# Altium footprint library PCB1.PcbLib: 27 footprints (part 1 of 2)
Each footprint in its own frame and in the unit in brackets; x right, y up, seen from the top. Pads: shape width x height; smd on the part's side, far side on the other; paste and mask are expansions set on the pad; w line width, h text height; cw(c..) or ccw(c..) is an arc to the next point about the centre after c.
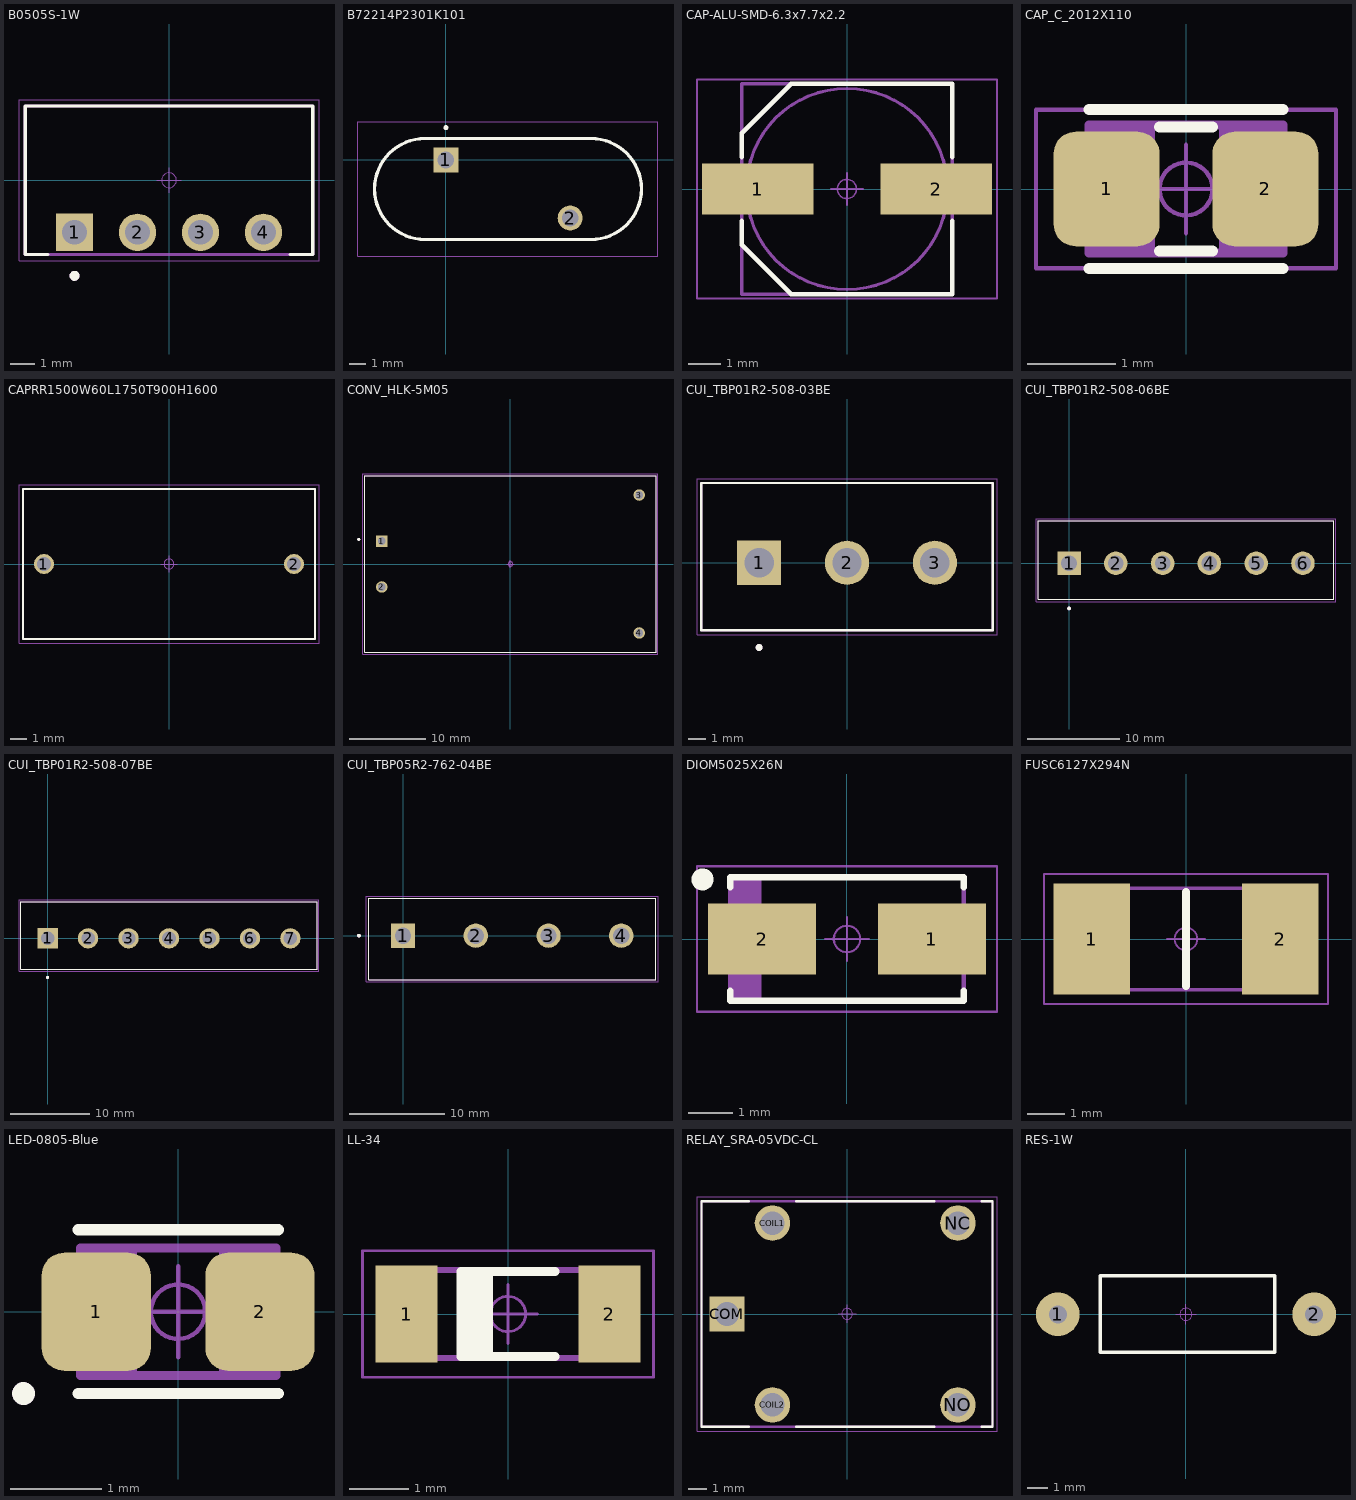
[diagram p0: the footprints below, top view; thin cyan lines are the x and y axes]

## B0505S-1W [mm]
pads (4):
  rect 1.508x1.508 / inner round 1.508 / far side rect 1.508x1.508 hole 1: 1(-3.81,-2.1)
  round 1.508 hole 1: 2(-1.27,-2.1) 3(1.27,-2.1) 4(3.81,-2.1)
Top Overlay:
  circle w0.2: c-3.81,-3.854 r0.1
  lines w0.127: -4.884,-3 -5.8,-3 -5.8,3 5.8,3 5.8,-3 4.884,-3
Top Assembly:
  lines w0.127: -5.8,-3 5.8,-3 5.8,3 -5.8,3 -5.8,-3
  text "'.Designator'" at -5.2,-1.3 h1.52
Top Courtyard:
  lines w0.05: -6.05,-3.25 -6.05,3.25 6.05,3.25 6.05,-3.25 -6.05,-3.25
Top Component Center:
  circle w0.05: c0,0 r0.3
  lines w0.05: -0.5,0 0.5,0 ; 0,-0.5 0,0.5
Mechanical 13:
  circle w0.2: c-3.81,-3.854 r0.1
3D body "B_S-1WR3.stp": height 10.16, standoff -4.1, extent -5.8,-3.013 5.8,2.987

## B72214P2301K101 [mm]
pads (2):
  rect 1.5x1.5 hole 1: 1(0,0)
  round 1.5 hole 1: 2(7.5,-3.5)
Top Overlay:
  lines w0.2: 0,1.9 ccw(c0,1.95) 0,2 ; 0,1.9 cw(c0,1.95) 0,2 ; 0,1.9 ccw(c0,1.95) 0,2 ; -1.25,-4.8 cw(c-1.25,-1.75) -1.25,1.3 8.75,1.3 cw(c8.75,-1.75) 8.75,-4.8 -1.25,-4.8
Top Assembly:
  lines w0.1: -1.25,-4.8 cw(c-1.25,-1.75) -1.25,1.3 8.75,1.3 cw(c8.75,-1.75) 8.75,-4.8 -1.25,-4.8
  text "'.Designator'" at -1.1,-3.2 h1.52
Top Courtyard:
  lines w0.05: -5.3,-5.8 12.8,-5.8 12.8,2.3 -5.3,2.3 -5.3,-5.8
3D body "B72214P2301K101.stp": height 17.97, standoff -24.03, extent -2.996,-4.772 10.496,1.112

## CAP-ALU-SMD-6.3x7.7x2.2 [mm]
pads (2):
  rect 3.5x1.6 smd: 1(-2.8,0) 2(2.8,0)
Top Overlay:
  lines w0.15: -3.3,-1 -3.3,-1.75 -1.75,-3.3 3.3,-3.3 3.3,-1 ; -3.3,1 -3.3,1.75 -1.75,3.3 3.3,3.3 3.3,1
Top Assembly:
  circle w0.1: c0,0 r3.15
  lines w0.1: -3.3,-3.3 3.3,-3.3 3.3,3.3 -3.3,3.3 -3.3,-3.3
  text "'.Designator'" at -8,-1 h1.52
Top Courtyard:
  lines w0.05: -4.699,-3.429 -4.699,3.429 4.699,3.429 4.699,-3.429 -4.699,-3.429
Top Component Center:
  circle w0.05: c0,0 r0.3
  lines w0.05: -0.5,0 0.5,0 ; 0,-0.5 0,0.5
3D body "6.3x7.7x2.2.stp": height 7.65, standoff -0.05, extent -3.65,-3.3 3.65,3.3

## CAP_C_2012X110 [mm]
pads (2):
  rrect41% 1.2x1.3 smd: 1(-0.9,0) 2(0.9,0)
Top Overlay:
  lines w0.125: -1.1,-0.9 1.1,-0.9 ; -1.1,0.9 1.1,0.9 ; -0.3,-0.7 0.3,-0.7 ; -0.3,0.7 0.3,0.7
Top Assembly:
  lines w0.1: -1.1,-0.725 -1.1,0.725 1.1,0.725 1.1,-0.725 -1.1,-0.725
  text "'.Designator'" at -3.952,-0.622 h1.5
Top Courtyard:
  lines w0.05: -1.7,-0.9 1.7,-0.9 1.7,0.9 -1.7,0.9 -1.7,-0.9
Top Component Center:
  circle w0.05: c0,0 r0.3
  lines w0.05: -0.5,0 0.5,0 ; 0,-0.5 0,0.5
Top Component Outline:
  rectangle: 0.376,-0.725 1.126,0.725
  rectangle: -1.1,-0.727 -0.35,0.723
  lines w0.05: -1.1,-0.725 1.1,-0.725 1.1,0.725 -1.1,0.725 -1.1,-0.725
3D body "CAPC2012X110.step": height 1.1, standoff 0, extent -1.1,-0.725 1.1,0.725

## CAPRR1500W60L1750T900H1600 [mm]
pads (2):
  round 1.2 hole 0.85: 1(-7.5,0) 2(7.5,0)
Top Overlay:
  lines w0.127: -8.75,-4.5 -8.75,4.5 8.75,4.5 8.75,-4.5 -8.75,-4.5
Top Assembly:
  lines w0.127: -8.75,-4.5 -8.75,4.5 8.75,4.5 8.75,-4.5 -8.75,-4.5
  text "'.Designator'" at -8,-1 h1.52
Top Courtyard:
  lines w0.05: -9,-4.75 9,-4.75 9,4.75 -9,4.75 -9,-4.75
Top Component Center:
  circle w0.05: c0,0 r0.3
  lines w0.05: -0.5,0 0.5,0 ; 0,-0.5 0,0.5
3D body "ECQUAAF334K.STEP": height 16, standoff -20, extent -8.75,-4.5 8.75,4.5

## CONV_HLK-5M05 [mm]
pads (4):
  rect 1.5x1.5 / inner round 1.5 / far side rect 1.5x1.5 hole 1: 1(-16.8,3)
  round 1.5 hole 1: 2(-16.8,-3) 3(16.8,9) 4(16.8,-9)
Top Overlay:
  circle w0.2: c-19.8,3.2 r0.1
  lines w0.127: -19,-11.5 19,-11.5 19,11.5 -19,11.5 -19,-11.5
Top Assembly:
  text "'.Designator'" at -8,-1 h1.52
Top Courtyard:
  lines w0.05: -19.25,-11.75 -19.25,11.75 19.25,11.75 19.25,-11.75 -19.25,-11.75
  lines w0.127: -19,-11.5 -19,11.5 19,11.5 19,-11.5 -19,-11.5
Top Component Center:
  circle w0.05: c0,0 r0.3
  lines w0.05: -0.5,0 0.5,0 ; 0,-0.5 0,0.5
Mechanical 13:
  circle w0.2: c-19.8,3.2 r0.1
3D body "step_temp.STEP": height 18, standoff -5, extent -19,-11.5 19,11.5

## CUI_TBP01R2-508-03BE [mm]
pads (3):
  rect 2.55x2.55 / inner round 2.55 / far side rect 2.55x2.55 hole 1.7: 1(-5.08,0)
  round 2.55 hole 1.7: 2(0,0) 3(5.08,0)
Top Overlay:
  circle w0.2: c-5.08,-4.9 r0.1
  lines w0.127: -8.42,-3.9 -8.42,4.6 8.42,4.6 8.42,-3.9 -8.42,-3.9
Top Assembly:
  lines w0.127: -8.42,-3.9 8.42,-3.9 8.42,4.6 -8.42,4.6 -8.42,-3.9
  text "'.Designator'" at -8,-1 h1.52
Top Courtyard:
  lines w0.05: -8.67,-4.15 8.67,-4.15 8.67,4.85 -8.67,4.85 -8.67,-4.15
Mechanical 13:
  circle w0.2: c-5.08,-4.9 r0.1
3D body "step_temp.STEP": height 12.1, standoff -3.9, extent -8.42,-3.93 8.42,4.57

## CUI_TBP01R2-508-06BE [mm]
pads (6):
  rect 2.55x2.55 / inner round 2.55 / far side rect 2.55x2.55 hole 1.7: 1(0,0)
  round 2.55 hole 1.7: 2(5.08,0) 3(10.16,0) 4(15.24,0) 5(20.32,0) 6(25.4,0)
Top Overlay:
  circle w0.2: c0,-4.9 r0.1
  lines w0.127: -3.34,-3.9 -3.34,4.6 28.74,4.6 28.74,-3.9 -3.34,-3.9
Top Assembly:
  lines w0.127: -3.34,-3.9 28.74,-3.9 28.74,4.6 -3.34,4.6 -3.34,-3.9
  text "'.Designator'" at 5.2,-1.2 h1.52
Top Courtyard:
  lines w0.05: -3.59,-4.15 28.99,-4.15 28.99,4.85 -3.59,4.85 -3.59,-4.15
Mechanical 13:
  circle w0.2: c0,-4.9 r0.1
3D body "step_temp.STEP": height 12.1, standoff -3.9, extent -3.34,-3.9 28.74,4.6

## CUI_TBP01R2-508-07BE [mm]
pads (7):
  rect 2.55x2.55 / inner round 2.55 / far side rect 2.55x2.55 hole 1.7: 1(0,0)
  round 2.55 hole 1.7: 2(5.08,0) 3(10.16,0) 4(15.24,0) 5(20.32,0) 6(25.4,0) 7(30.48,0)
Top Overlay:
  circle w0.2: c0,-4.9 r0.1
  lines w0.127: -3.34,-3.9 33.82,-3.9 33.82,4.6 -3.34,4.6 -3.34,-3.9
Top Assembly:
  lines w0.127: -3.34,-3.9 33.82,-3.9 33.82,4.6 -3.34,4.6 -3.34,-3.9
  text "'.Designator'" at 9,-1 h1.52
Top Courtyard:
  lines w0.05: -3.59,-4.15 34.07,-4.15 34.07,4.85 -3.59,4.85 -3.59,-4.15
Mechanical 13:
  circle w0.2: c0,-4.9 r0.1
3D body "step_temp.STEP": height 12.1, standoff -3.9, extent -3.36,-3.85 33.8,4.65

## CUI_TBP05R2-762-04BE [mm]
pads (4):
  rect 2.55x2.55 / inner round 2.55 / far side rect 2.55x2.55 hole 1.7: 1(0,0)
  round 2.55 hole 1.7: 2(7.62,0) 3(15.24,0) 4(22.86,0)
Top Overlay:
  circle w0.2: c-4.62,0 r0.1
  lines w0.127: -3.6,-4.6 -3.6,3.9 26.46,3.9 26.46,-4.6 -3.6,-4.6
Top Assembly:
  lines w0.127: -3.6,-4.6 26.46,-4.6 26.46,3.9 -3.6,3.9 -3.6,-4.6
  text "'.Designator'" at 3.5,-1 h1.52
Top Courtyard:
  lines w0.05: -3.85,-4.85 26.71,-4.85 26.71,4.15 -3.85,4.15 -3.85,-4.85
Mechanical 13:
  circle w0.2: c-4.62,0 r0.1
3D body "step_temp.STEP": height 12, standoff -4, extent -3.66,-4.6 26.4,3.9

## DIOM5025X26N [mm]
pads (2):
  rect 2.45x1.6 smd: 1(1.925,0) 2(-1.925,0)
Top Overlay:
  circle w0.25: c-3.275,1.35 r0.125
  lines w0.15: -2.65,-1.175 -2.65,-1.4 2.65,-1.4 2.65,-1.175 ; -2.65,1.175 -2.65,1.4 2.65,1.4 2.65,1.175
Top Assembly:
  rectangle: -2.65,-1.4 -1.937,1.4
  lines w0.1: -2.65,-1.4 -2.65,1.4 2.65,1.4 2.65,-1.4 -2.65,-1.4
  text "'.Designator'" at -2.3,-1.4 h1.52
Top Courtyard:
  lines w0.05: -3.4,-1.65 -3.4,1.65 3.4,1.65 3.4,-1.65 -3.4,-1.65
Top Component Center:
  circle w0.05: c0,0 r0.3
  lines w0.05: -0.5,0 0.5,0 ; 0,-0.5 0,0.5
3D body "1SMA4742.STEP": height 2.5, standoff 0, extent -2.57,-1.28 2.57,1.28

## FUSC6127X294N [mm]
pads (2):
  rect 2.02x2.95 smd: 1(-2.5,0) 2(2.5,0)
Top Overlay:
  lines w0.2: 0,-1.245 0,1.245
Top Assembly:
  lines w0.1: -3.05,-1.345 -3.05,1.345 3.05,1.345 3.05,-1.345 -3.05,-1.345
  text "'.Designator'" at -3.7,-1.5 h1.52
Top Courtyard:
  lines w0.05: -3.76,-1.725 -3.76,1.725 3.76,1.725 3.76,-1.725 -3.76,-1.725
Top Component Center:
  circle w0.05: c0,0 r0.3
  lines w0.05: -0.5,0 0.5,0 ; 0,-0.5 0,0.5
3D body "0451001.MRL.stp": height 2.94, standoff 0, extent -3.05,-1.345 3.05,1.345

## LED-0805-Blue [mm]
pads (2):
  rrect41% 1.2x1.3 smd: 1(-0.9,0) 2(0.9,0)
Top Overlay:
  circle w0.15: c-1.7,-0.9 r0.05
  lines w0.125: -1.1,-0.9 1.1,-0.9 ; -1.1,0.9 1.1,0.9
Top Assembly:
  circle w0.15: c-1.7,-0.9 r0.05
  lines w0.1: -1.075,-0.7 -1.075,0.7 1.075,0.7 1.075,-0.7 -1.075,-0.7
  text "'.Designator'" at -4.217,-0.666 h1.6
Top Component Center:
  region: 1.1,0.7 0.45,0.7 0.45,-0.7 1.1,-0.7
  rectangle: -1.1,-0.7 -0.45,0.7
  lines w0.05: -1.1,-0.7 1.1,-0.7 1.1,0.7 -1.1,0.7 -1.1,-0.7
Top Component Outline:
  circle w0.05: c0,0 r0.3
  lines w0.05: -0.5,0 0.5,0 ; 0,-0.5 0,0.5
3D body "User Library-led_0805-blue.step": height 1.1, standoff 0, extent -1.01,-0.625 1.01,0.625

## LL-34 [mm]
pads (2):
  rect 1.05x1.65 smd: 1(-1.725,0) 2(1.725,0)
Top Overlay:
  rectangle: -0.802,-0.726 -0.252,0.724
  lines w0.15: 0.8,-0.725 -0.8,-0.725 -0.8,0.725 0.8,0.725
Top Assembly:
  lines w0.1: -1.8,-0.75 1.8,-0.75 1.8,0.75 -1.8,0.75 -1.8,-0.75
  text "'.Designator'" at -2.8,-1.5 h1.52
Top Courtyard:
  lines w0.05: -2.475,-1.075 2.475,-1.075 2.475,1.075 -2.475,1.075 -2.475,-1.075
Top Component Center:
  circle w0.05: c0,0 r0.3
  lines w0.05: -0.5,0 0.5,0 ; 0,-0.5 0,0.5
3D body "DIOMELF3514N.step": height 1.45, standoff 0, extent -1.75,-0.72 1.75,0.72

## RELAY_SRA-05VDC-CL [mm]
pads (5):
  round 1.95 hole 1.3: COIL1(-4.1,5) COIL2(-4.1,-5) NC(6.1,5) NO(6.1,-5)
  rect 1.95x1.95 / inner round 1.95 / far side rect 1.95x1.95 hole 1.3: COM(-6.6,0)
Top Overlay:
  lines w0.127: -5.395,-6.2 -8,-6.2 -8,6.2 -5.395,6.2 ; -2.805,-6.2 4.805,-6.2 ; -2.805,6.2 4.805,6.2 ; 7.395,-6.2 8,-6.2 8,6.2 7.395,6.2
Top Assembly:
  lines w0.127: -8,-6.2 8,-6.2 8,6.2 -8,6.2 -8,-6.2
  text "'.Designator'" at -3.3,-1.4 h1.52
Top Courtyard:
  lines w0.05: -8.25,-6.45 8.25,-6.45 8.25,6.45 -8.25,6.45 -8.25,-6.45
Top Component Center:
  circle w0.05: c0.006,0.006 r0.3
  lines w0.05: -0.494,0.006 0.506,0.006 ; 0.006,-0.494 0.006,0.506
3D body "step_temp.STEP": height 14, standoff -3.2, extent -8,-6.2 8,6.2

## RES-1W [mil]
pads (2):
  round 85 hole 35: 1(-250,0) 2(250,0)
Top Overlay:
  lines w7: -167,-73.81 173,-73.81 173,75 -167,75 -167,-73.81
Top Assembly:
  text "'.Designator'" at -236.22,-62.99 h60
Top Component Center:
  circle w1.97: c0,0 r11.81
  lines w1.97: -19.68,0 19.69,0 ; 0,-19.68 0,19.69
3D body "User Library-Res50-Axial 0_5W-3_3K.step": height 188.98, standoff -180.12, extent -264.76,-73.82 264.77,73.82